# Altium integrated library Linear Technology Power Management Power Control.IntLib: 661 symbols (part 34 of 43)
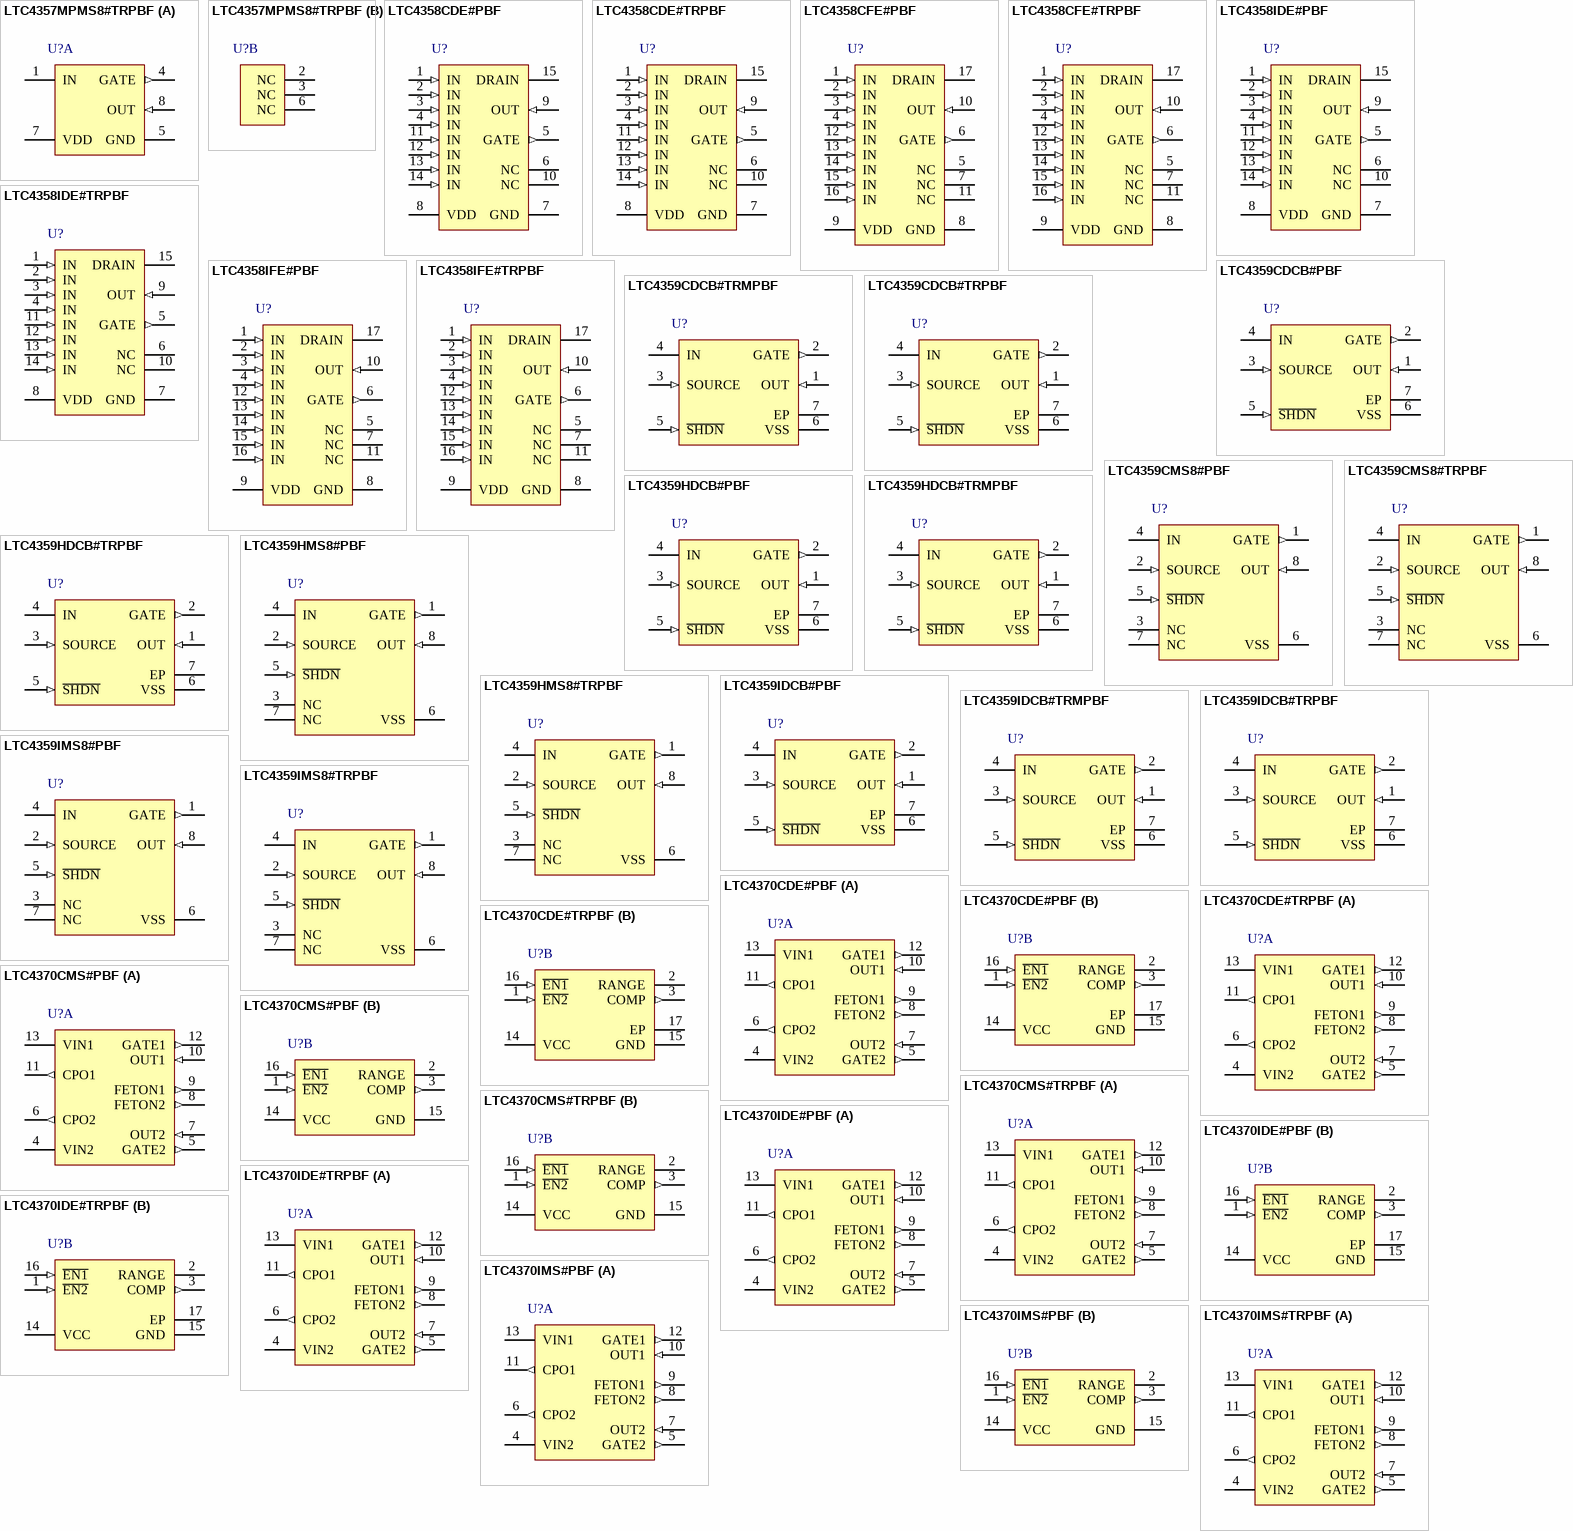
[diagram p52: symbols LTC4357MPMS8#TRPBF to LTC4370IMS#TRPBF]

## LTC4370IDE#PBF
designator U?
Two-Supply Diode-OR Current Balancing Controller, 0 to 18 V Vin, 16-pin SON (DE-16), -40 to 85 degC, Pb-Free; Manufacturer: Linear Technology; PartNumber: LTC4370IDE#PBF; Ideal Diode: Dual, External, N-Channel; PackageVersion: Rev. Ø, 06/2010; PackageReference: DE-16; PackageDescription: 16-Pin Plastic DFN, Body 4 x 3 mm, Pitch 0.45 mm; Supplier 1: Digi-Key; Supplier Part Number 1: LTC4370IDE#PBF-ND; Supplier 2: Farnell; Supplier Part Number 2: 2115824; RoHS: TRUE; Mounting Technology: Surface Mount; Code_JEDEC: MO-229; ComponentLink1Description: Manufacturer URL; ComponentLink1URL: http://www.linear.com/; ComponentLink2Description: Datasheet; ComponentLink2URL: http://cds.linear.com/docs/en/datasheet/4370f.pdf; ComponentLink3Description: Package Specification; ComponentLink3URL: http://cds.linear.com/docs/en/packaging/DFN_16_05-08-1732.pdf
footprint LT-DE-16_V (SON, 16-Leads, Body 4x3mm, Pitch 0.45mm, Thermal Pad 3.3x1.7mm)
part A pins: 4 VIN2 (power) "Voltage Sense and Supply Input. Connect this pin to the supply side of the MOSFET. The low voltage supply VCC is generated from the higher of VIN1 and VIN2. The voltage sensed at this pin is used to control the MOSFET gate.", 5 GATE2 (out) "MOSFET Gate Drive Output.Connect this pin to the gate of the external N-channel MOSFET switch. An internal clamp limits the gate voltage to 12V above, and a diode below the input supply. During fast turn-on, a 1.4A pull-up (See Datasheet)", 6 CPO2 (out) "Charge Pump Output. Connect a capacitor from this pin to the corresponding VIN pin. The value of this capacitor should be approximately 10x the gate capacitance (CISS) of the MOSFET switch. The charge stored on this (See Datasheet)", 7 OUT2 (in) "Output Voltage and Current Sense Input. Connect this pin to the input side of the supply’s current sense resistor. A Kelvin connection is important for accurate current sharing. The voltage sensed at this pin is used t(See Datasheet)", 8 FETON2 (out) "MOSFET Status Output. This pin is pulled low by an internal switch when GATE is less than 0.7V above VIN to indicate an off MOSFET. Because of this, it may also signal off if small currents are flowing through a high-gm (See Datasheet)", 9 FETON1 (out) "MOSFET Status Output. This pin is pulled low by an internal switch when GATE is less than 0.7V above VIN to indicate an off MOSFET. Because of this, it may also signal off if small currents are flowing through a high-gm (See Datasheet)", 10 OUT1 (in) "Output Voltage and Current Sense Input. Connect this pin to the input side of the supply’s current sense resistor. A Kelvin connection is important for accurate current sharing. The voltage sensed at this pin is used t(See Datasheet)", 11 CPO1 (out) "Charge Pump Output. Connect a capacitor from this pin to the corresponding VIN pin. The value of this capacitor should be approximately 10x the gate capacitance (CISS) of the MOSFET switch. The charge stored on this (See Datasheet)", 12 GATE1 (out) "MOSFET Gate Drive Output.Connect this pin to the gate of the external N-channel MOSFET switch. An internal clamp limits the gate voltage to 12V above, and a diode below the input supply. During fast turn-on, a 1.4A pull-up (See Datasheet)", 13 VIN1 (power) "Voltage Sense and Supply Input. Connect this pin to the supply side of the MOSFET. The low voltage supply VCC is generated from the higher of VIN1 and VIN2. The voltage sensed at this pin is used to control the MOSFET gate."
part B pins: 1 ~{EN2} (in) "Enable Input. Keep this pin below 0.6V to enable sharing and diode control on the corresponding supply. Driving this pin high shuts off the MOSFET gate (current can still flow through its body diode). The comparator has a (See Datasheet)", 2 RANGE "Supply Differential Voltage Load Sharing Range. Connect a resistor (below 60k) from this pin to GND. A 10uA internal pull-up current source into this resistor sets the pin voltage VRANGE. The two supplies will typically (See Datasheet)", 3 COMP (out) "Error Amplifier Compensation. Connect a capacitor from this pin to GND. The value of this capacitor should be approximately 10 to 50 times the gate capacitance (CISS) of the MOSFET switch. Maintain low board leakage on this (See Datasheet)", 14 VCC (power) "Low Voltage Supply. Connect a 0.1uF capacitor from this pin to ground. For VIN >= 2.9V this pin provides decoupling for an internal regulator that generates a 5V supply. For applications where both VIN < 2.9V, also connect (See Datasheet)", 15 GND (power) "Device Ground.", 16 ~{EN1} (in) "Enable Input. Keep this pin below 0.6V to enable sharing and diode control on the corresponding supply. Driving this pin high shuts off the MOSFET gate (current can still flow through its body diode). The comparator has a (See Datasheet)", 17 EP (power) "The exposed pad may be left open or connected to device ground."

## LTC4370IDE#TRPBF
designator U?
Two-Supply Diode-OR Current Balancing Controller, 0 to 18 V Vin, 16-pin SON (DE-16), -40 to 85 degC, Pb-Free, Tape and Reel; Manufacturer: Linear Technology; PartNumber: LTC4370IDE#TRPBF; Ideal Diode: Dual, External, N-Channel; PackageVersion: Rev. Ø, 06/2010; PackageReference: DE-16; PackageDescription: 16-Pin Plastic DFN, Body 4 x 3 mm, Pitch 0.45 mm; Packing: Tape and Reel; RoHS: TRUE; Mounting Technology: Surface Mount; Code_JEDEC: MO-229; ComponentLink1Description: Manufacturer URL; ComponentLink1URL: http://www.linear.com/; ComponentLink2Description: Datasheet; ComponentLink2URL: http://cds.linear.com/docs/en/datasheet/4370f.pdf; ComponentLink3Description: Package Specification; ComponentLink3URL: http://cds.linear.com/docs/en/packaging/DFN_16_05-08-1732.pdf
footprint LT-DE-16_V (SON, 16-Leads, Body 4x3mm, Pitch 0.45mm, Thermal Pad 3.3x1.7mm)
part A pins: 4 VIN2 (power) "Voltage Sense and Supply Input. Connect this pin to the supply side of the MOSFET. The low voltage supply VCC is generated from the higher of VIN1 and VIN2. The voltage sensed at this pin is used to control the MOSFET gate.", 5 GATE2 (out) "MOSFET Gate Drive Output.Connect this pin to the gate of the external N-channel MOSFET switch. An internal clamp limits the gate voltage to 12V above, and a diode below the input supply. During fast turn-on, a 1.4A pull-up (See Datasheet)", 6 CPO2 (out) "Charge Pump Output. Connect a capacitor from this pin to the corresponding VIN pin. The value of this capacitor should be approximately 10x the gate capacitance (CISS) of the MOSFET switch. The charge stored on this (See Datasheet)", 7 OUT2 (in) "Output Voltage and Current Sense Input. Connect this pin to the input side of the supply’s current sense resistor. A Kelvin connection is important for accurate current sharing. The voltage sensed at this pin is used t(See Datasheet)", 8 FETON2 (out) "MOSFET Status Output. This pin is pulled low by an internal switch when GATE is less than 0.7V above VIN to indicate an off MOSFET. Because of this, it may also signal off if small currents are flowing through a high-gm (See Datasheet)", 9 FETON1 (out) "MOSFET Status Output. This pin is pulled low by an internal switch when GATE is less than 0.7V above VIN to indicate an off MOSFET. Because of this, it may also signal off if small currents are flowing through a high-gm (See Datasheet)", 10 OUT1 (in) "Output Voltage and Current Sense Input. Connect this pin to the input side of the supply’s current sense resistor. A Kelvin connection is important for accurate current sharing. The voltage sensed at this pin is used t(See Datasheet)", 11 CPO1 (out) "Charge Pump Output. Connect a capacitor from this pin to the corresponding VIN pin. The value of this capacitor should be approximately 10x the gate capacitance (CISS) of the MOSFET switch. The charge stored on this (See Datasheet)", 12 GATE1 (out) "MOSFET Gate Drive Output.Connect this pin to the gate of the external N-channel MOSFET switch. An internal clamp limits the gate voltage to 12V above, and a diode below the input supply. During fast turn-on, a 1.4A pull-up (See Datasheet)", 13 VIN1 (power) "Voltage Sense and Supply Input. Connect this pin to the supply side of the MOSFET. The low voltage supply VCC is generated from the higher of VIN1 and VIN2. The voltage sensed at this pin is used to control the MOSFET gate."
part B pins: 1 ~{EN2} (in) "Enable Input. Keep this pin below 0.6V to enable sharing and diode control on the corresponding supply. Driving this pin high shuts off the MOSFET gate (current can still flow through its body diode). The comparator has a (See Datasheet)", 2 RANGE "Supply Differential Voltage Load Sharing Range. Connect a resistor (below 60k) from this pin to GND. A 10uA internal pull-up current source into this resistor sets the pin voltage VRANGE. The two supplies will typically (See Datasheet)", 3 COMP (out) "Error Amplifier Compensation. Connect a capacitor from this pin to GND. The value of this capacitor should be approximately 10 to 50 times the gate capacitance (CISS) of the MOSFET switch. Maintain low board leakage on this (See Datasheet)", 14 VCC (power) "Low Voltage Supply. Connect a 0.1uF capacitor from this pin to ground. For VIN >= 2.9V this pin provides decoupling for an internal regulator that generates a 5V supply. For applications where both VIN < 2.9V, also connect (See Datasheet)", 15 GND (power) "Device Ground.", 16 ~{EN1} (in) "Enable Input. Keep this pin below 0.6V to enable sharing and diode control on the corresponding supply. Driving this pin high shuts off the MOSFET gate (current can still flow through its body diode). The comparator has a (See Datasheet)", 17 EP (power) "The exposed pad may be left open or connected to device ground."

## LTC4370IMS#PBF
designator U?
Two-Supply Diode-OR Current Balancing Controller, 0 to 18 V Vin, 16-pin SOP (MS-16), -40 to 85 degC, Pb-Free; Manufacturer: Linear Technology; PartNumber: LTC4370IMS#PBF; Ideal Diode: Dual, External, N-Channel; PackageVersion: Rev. Ø, 06/2010; PackageReference: MS16; PackageDescription: 16-Pin Plastic MSOP, Body 4.04 x 3.00 mm, Pitch 0.50 mm; Supplier 1: Digi-Key; Supplier Part Number 1: LTC4370IMS#PBF-ND; Supplier 2: Farnell; Supplier Part Number 2: 2115825; Supplier 3: Newark; Supplier Part Number 3: 05W4634; RoHS: TRUE; Mounting Technology: Surface Mount; ComponentLink1Description: Manufacturer URL; ComponentLink1URL: http://www.linear.com/; ComponentLink2Description: Datasheet; ComponentLink2URL: http://cds.linear.com/docs/en/datasheet/4370f.pdf; ComponentLink3Description: Package Specification; ComponentLink3URL: http://cds.linear.com/docs/en/packaging/05081669_A_MS16.pdf
footprint LT-MS-16_N (SOP, 16-Leads, Body 4.1x3.1mm, Pitch 0.5mm, IPC Medium Density)
footprint LT-MS-16_L (SOP, 16-Leads, Body 4.1x3.1mm, Pitch 0.5mm, IPC High Density)
footprint LT-MS-16_M (SOP, 16-Leads, Body 4.1x3.1mm, Pitch 0.5mm, IPC Low Density)
part A pins: 4 VIN2 (power) "Voltage Sense and Supply Input. Connect this pin to the supply side of the MOSFET. The low voltage supply VCC is generated from the higher of VIN1 and VIN2. The voltage sensed at this pin is used to control the MOSFET gate.", 5 GATE2 (out) "MOSFET Gate Drive Output.Connect this pin to the gate of the external N-channel MOSFET switch. An internal clamp limits the gate voltage to 12V above, and a diode below the input supply. During fast turn-on, a 1.4A pull-up (See Datasheet)", 6 CPO2 (out) "Charge Pump Output. Connect a capacitor from this pin to the corresponding VIN pin. The value of this capacitor should be approximately 10x the gate capacitance (CISS) of the MOSFET switch. The charge stored on this (See Datasheet)", 7 OUT2 (in) "Output Voltage and Current Sense Input. Connect this pin to the input side of the supply’s current sense resistor. A Kelvin connection is important for accurate current sharing. The voltage sensed at this pin is used t(See Datasheet)", 8 FETON2 (out) "MOSFET Status Output. This pin is pulled low by an internal switch when GATE is less than 0.7V above VIN to indicate an off MOSFET. Because of this, it may also signal off if small currents are flowing through a high-gm (See Datasheet)", 9 FETON1 (out) "MOSFET Status Output. This pin is pulled low by an internal switch when GATE is less than 0.7V above VIN to indicate an off MOSFET. Because of this, it may also signal off if small currents are flowing through a high-gm (See Datasheet)", 10 OUT1 (in) "Output Voltage and Current Sense Input. Connect this pin to the input side of the supply’s current sense resistor. A Kelvin connection is important for accurate current sharing. The voltage sensed at this pin is used t(See Datasheet)", 11 CPO1 (out) "Charge Pump Output. Connect a capacitor from this pin to the corresponding VIN pin. The value of this capacitor should be approximately 10x the gate capacitance (CISS) of the MOSFET switch. The charge stored on this (See Datasheet)", 12 GATE1 (out) "MOSFET Gate Drive Output.Connect this pin to the gate of the external N-channel MOSFET switch. An internal clamp limits the gate voltage to 12V above, and a diode below the input supply. During fast turn-on, a 1.4A pull-up (See Datasheet)", 13 VIN1 (power) "Voltage Sense and Supply Input. Connect this pin to the supply side of the MOSFET. The low voltage supply VCC is generated from the higher of VIN1 and VIN2. The voltage sensed at this pin is used to control the MOSFET gate."
part B pins: 1 ~{EN2} (in) "Enable Input. Keep this pin below 0.6V to enable sharing and diode control on the corresponding supply. Driving this pin high shuts off the MOSFET gate (current can still flow through its body diode). The comparator has a (See Datasheet)", 2 RANGE "Supply Differential Voltage Load Sharing Range. Connect a resistor (below 60k) from this pin to GND. A 10uA internal pull-up current source into this resistor sets the pin voltage VRANGE. The two supplies will typically (See Datasheet)", 3 COMP (out) "Error Amplifier Compensation. Connect a capacitor from this pin to GND. The value of this capacitor should be approximately 10 to 50 times the gate capacitance (CISS) of the MOSFET switch. Maintain low board leakage on this (See Datasheet)", 14 VCC (power) "Low Voltage Supply. Connect a 0.1uF capacitor from this pin to ground. For VIN >= 2.9V this pin provides decoupling for an internal regulator that generates a 5V supply. For applications where both VIN < 2.9V, also connect (See Datasheet)", 15 GND (power) "Device Ground.", 16 ~{EN1} (in) "Enable Input. Keep this pin below 0.6V to enable sharing and diode control on the corresponding supply. Driving this pin high shuts off the MOSFET gate (current can still flow through its body diode). The comparator has a (See Datasheet)"

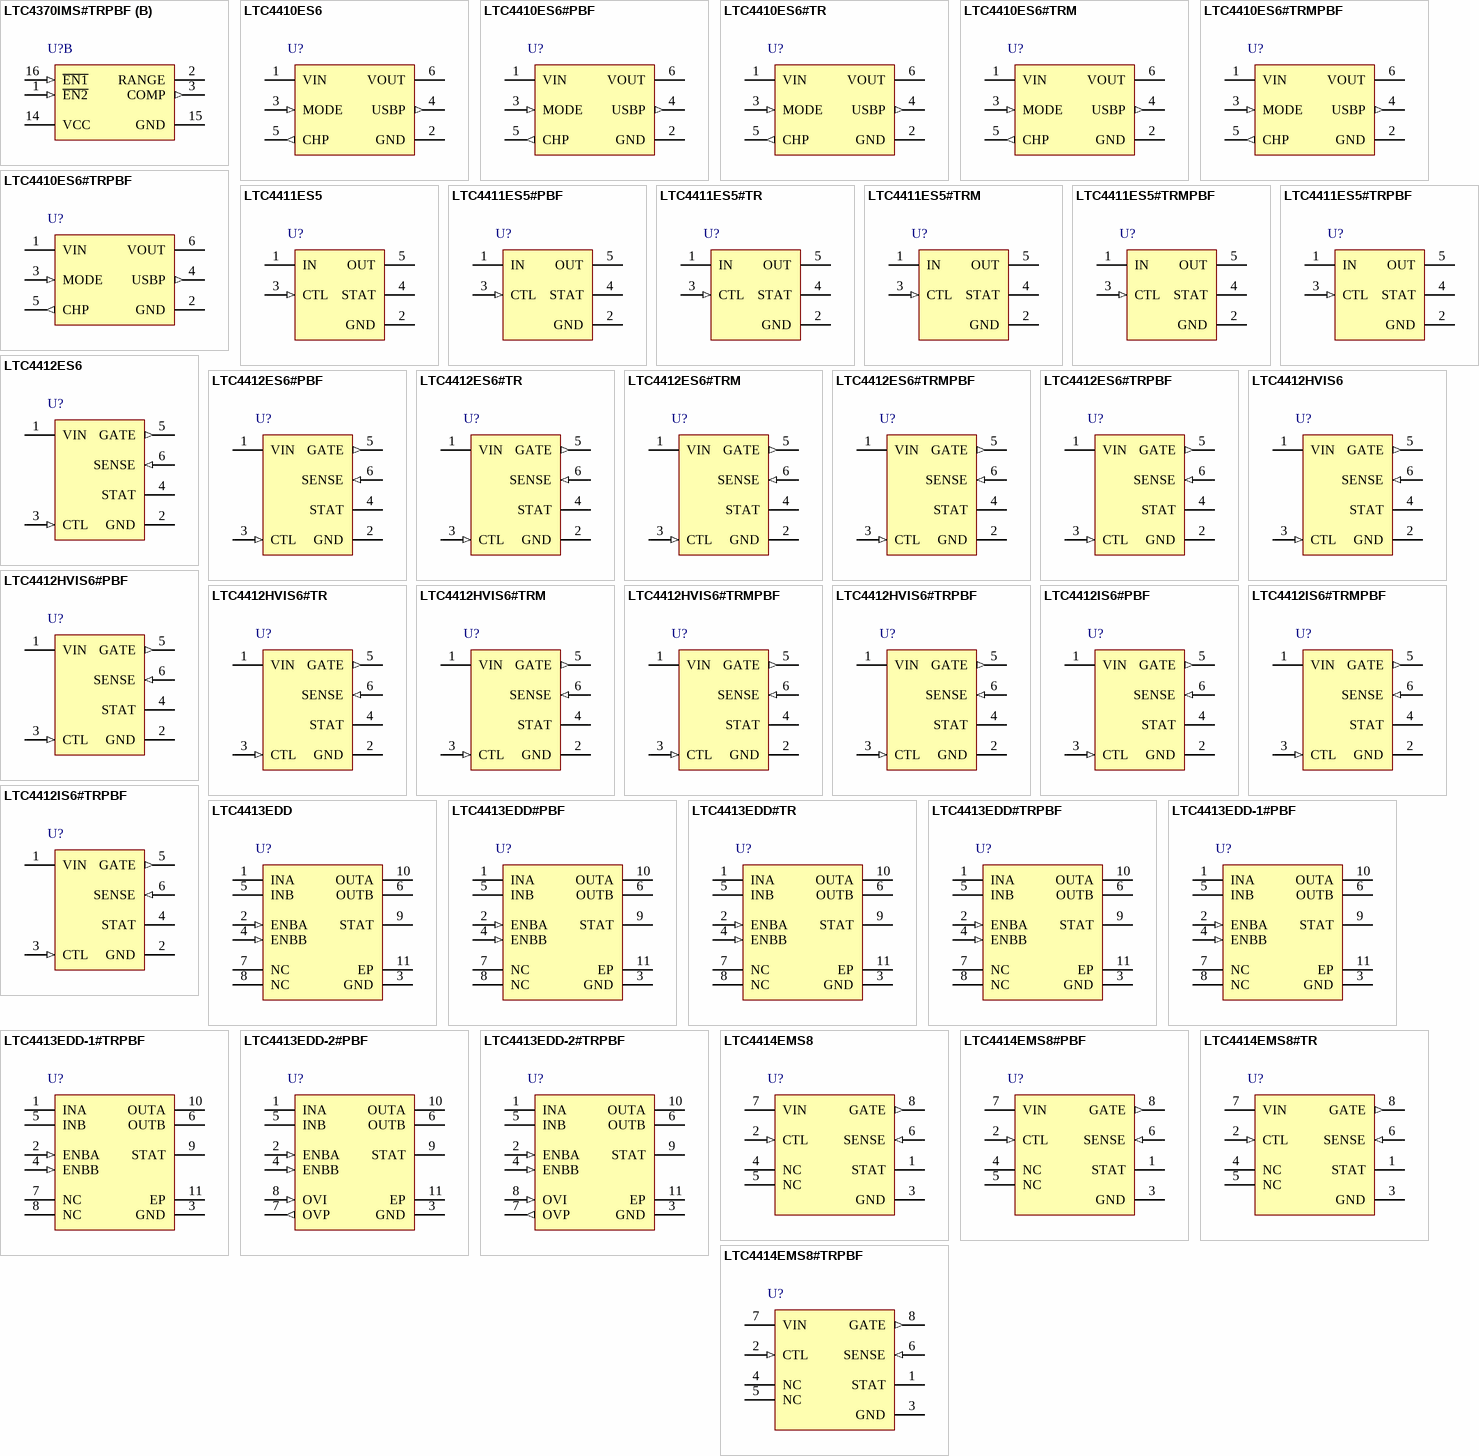
[diagram p16: symbols LTC4370IMS#TRPBF to LTC4414EMS8#TRPBF]

## LTC4370IMS#TRPBF
designator U?
Two-Supply Diode-OR Current Balancing Controller, 0 to 18 V Vin, 16-pin SOP (MS-16), -40 to 85 degC, Pb-Free, Tape and Reel; Manufacturer: Linear Technology; PartNumber: LTC4370IMS#TRPBF; Ideal Diode: Dual, External, N-Channel; PackageVersion: Rev. Ø, 06/2010; PackageReference: MS16; PackageDescription: 16-Pin Plastic MSOP, Body 4.04 x 3.00 mm, Pitch 0.50 mm; Packing: Tape and Reel; RoHS: TRUE; Mounting Technology: Surface Mount; ComponentLink1Description: Manufacturer URL; ComponentLink1URL: http://www.linear.com/; ComponentLink2Description: Datasheet; ComponentLink2URL: http://cds.linear.com/docs/en/datasheet/4370f.pdf; ComponentLink3Description: Package Specification; ComponentLink3URL: http://cds.linear.com/docs/en/packaging/05081669_A_MS16.pdf
footprint LT-MS-16_N (SOP, 16-Leads, Body 4.1x3.1mm, Pitch 0.5mm, IPC Medium Density)
footprint LT-MS-16_L (SOP, 16-Leads, Body 4.1x3.1mm, Pitch 0.5mm, IPC High Density)
footprint LT-MS-16_M (SOP, 16-Leads, Body 4.1x3.1mm, Pitch 0.5mm, IPC Low Density)
part A pins: 4 VIN2 (power) "Voltage Sense and Supply Input. Connect this pin to the supply side of the MOSFET. The low voltage supply VCC is generated from the higher of VIN1 and VIN2. The voltage sensed at this pin is used to control the MOSFET gate.", 5 GATE2 (out) "MOSFET Gate Drive Output.Connect this pin to the gate of the external N-channel MOSFET switch. An internal clamp limits the gate voltage to 12V above, and a diode below the input supply. During fast turn-on, a 1.4A pull-up (See Datasheet)", 6 CPO2 (out) "Charge Pump Output. Connect a capacitor from this pin to the corresponding VIN pin. The value of this capacitor should be approximately 10x the gate capacitance (CISS) of the MOSFET switch. The charge stored on this (See Datasheet)", 7 OUT2 (in) "Output Voltage and Current Sense Input. Connect this pin to the input side of the supply’s current sense resistor. A Kelvin connection is important for accurate current sharing. The voltage sensed at this pin is used t(See Datasheet)", 8 FETON2 (out) "MOSFET Status Output. This pin is pulled low by an internal switch when GATE is less than 0.7V above VIN to indicate an off MOSFET. Because of this, it may also signal off if small currents are flowing through a high-gm (See Datasheet)", 9 FETON1 (out) "MOSFET Status Output. This pin is pulled low by an internal switch when GATE is less than 0.7V above VIN to indicate an off MOSFET. Because of this, it may also signal off if small currents are flowing through a high-gm (See Datasheet)", 10 OUT1 (in) "Output Voltage and Current Sense Input. Connect this pin to the input side of the supply’s current sense resistor. A Kelvin connection is important for accurate current sharing. The voltage sensed at this pin is used t(See Datasheet)", 11 CPO1 (out) "Charge Pump Output. Connect a capacitor from this pin to the corresponding VIN pin. The value of this capacitor should be approximately 10x the gate capacitance (CISS) of the MOSFET switch. The charge stored on this (See Datasheet)", 12 GATE1 (out) "MOSFET Gate Drive Output.Connect this pin to the gate of the external N-channel MOSFET switch. An internal clamp limits the gate voltage to 12V above, and a diode below the input supply. During fast turn-on, a 1.4A pull-up (See Datasheet)", 13 VIN1 (power) "Voltage Sense and Supply Input. Connect this pin to the supply side of the MOSFET. The low voltage supply VCC is generated from the higher of VIN1 and VIN2. The voltage sensed at this pin is used to control the MOSFET gate."
part B pins: 1 ~{EN2} (in) "Enable Input. Keep this pin below 0.6V to enable sharing and diode control on the corresponding supply. Driving this pin high shuts off the MOSFET gate (current can still flow through its body diode). The comparator has a (See Datasheet)", 2 RANGE "Supply Differential Voltage Load Sharing Range. Connect a resistor (below 60k) from this pin to GND. A 10uA internal pull-up current source into this resistor sets the pin voltage VRANGE. The two supplies will typically (See Datasheet)", 3 COMP (out) "Error Amplifier Compensation. Connect a capacitor from this pin to GND. The value of this capacitor should be approximately 10 to 50 times the gate capacitance (CISS) of the MOSFET switch. Maintain low board leakage on this (See Datasheet)", 14 VCC (power) "Low Voltage Supply. Connect a 0.1uF capacitor from this pin to ground. For VIN >= 2.9V this pin provides decoupling for an internal regulator that generates a 5V supply. For applications where both VIN < 2.9V, also connect (See Datasheet)", 15 GND (power) "Device Ground.", 16 ~{EN1} (in) "Enable Input. Keep this pin below 0.6V to enable sharing and diode control on the corresponding supply. Driving this pin high shuts off the MOSFET gate (current can still flow through its body diode). The comparator has a (See Datasheet)"

## LTC4410ES6
designator U?
USB Power Manager, 4.35 to 5.5 V Vin, 6-pin SOT23 (S6-6), -40 to 85 degC; Manufacturer: Linear Technology; PartNumber: LTC4410ES6; Ideal Diode: Single, External, P-Channel; PackageVersion: Jun-10; PackageReference: S6-6; PackageDescription: 6-Pin Plastic TSOT-23, Body 2.9 x 1.63 mm, Pitch 0.95 mm; RoHS: FALSE; Mounting Technology: Surface Mount; Code_JEDEC: MO-193; ComponentLink1Description: Manufacturer URL; ComponentLink1URL: http://www.linear.com/; ComponentLink2Description: Datasheet; ComponentLink2URL: http://cds.linear.com/docs/en/datasheet/4410fs.pdf; ComponentLink3Description: Package Specification; ComponentLink3URL: http://cds.linear.com/docs/en/packaging/SOT_6_05-08-1636.pdf
footprint LT-S6-6-TSOT-23_N (SOT23, 6-Leads, Body 2.9x1.75mm, Pitch 0.95mm, IPC Medium Density)
footprint LT-S6-6-TSOT-23_L (SOT23, 6-Leads, Body 2.9x1.75mm, Pitch 0.95mm, IPC High Density)
footprint LT-S6-6-TSOT-23_M (SOT23, 6-Leads, Body 2.9x1.75mm, Pitch 0.95mm, IPC Low Density)
pins: 1 VIN (power) "Positive Input Supply. When VIN > 4.2V, the internal undervoltage lockout enables the main switch that connects VIN to VOUT. Bypass VIN with a 10uF ceramic capacitor and a 1ohm resistor in series or use a 10uF capacitor with (See Datasheet)", 2 GND (power) "Signal Ground for the LTC4410.", 3 MODE (in) "Mode Select Input. This pin selects the maximum USB port current of either 100mA or 500mA. When MODE is high, the current out of CHP will be IVOUT/ 1000. When MODE is low, the current out of CHP will be IVOUT/1000 + 370uA (See Datasheet)", 4 USBP (out) "USB Voltage Present Output. This pin goes high when VIN exceeds the undervoltage lockout threshold (4.2V typical).", 5 CHP (out) "Charger Program Output. This pin sources a current that is used by the battery charger to control charge current.", 6 VOUT (power) "LTC4410 Output. Bypass this pin with a 10uF or larger X5R ceramic capacitor. This capacitor may be omitted if other circuitry connected to VOUT contains a bypass capacitor. When VOUT > VIN, the internal switch is held off, (See Datasheet)"

## LTC4410ES6#PBF
designator U?
USB Power Manager, 4.35 to 5.5 V Vin, 6-pin SOT23 (S6-6), -40 to 85 degC, Pb-Free; Manufacturer: Linear Technology; PartNumber: LTC4410ES6#PBF; Ideal Diode: Single, External, P-Channel; PackageVersion: Jun-10; PackageReference: S6-6; PackageDescription: 6-Pin Plastic TSOT-23, Body 2.9 x 1.63 mm, Pitch 0.95 mm; Supplier 1: Newark; Supplier Part Number 1: 78T3424; RoHS: TRUE; Mounting Technology: Surface Mount; Code_JEDEC: MO-193; ComponentLink1Description: Manufacturer URL; ComponentLink1URL: http://www.linear.com/; ComponentLink2Description: Datasheet; ComponentLink2URL: http://cds.linear.com/docs/en/datasheet/4410fs.pdf; ComponentLink3Description: Package Specification; ComponentLink3URL: http://cds.linear.com/docs/en/packaging/SOT_6_05-08-1636.pdf
footprint LT-S6-6-TSOT-23_N (SOT23, 6-Leads, Body 2.9x1.75mm, Pitch 0.95mm, IPC Medium Density)
footprint LT-S6-6-TSOT-23_L (SOT23, 6-Leads, Body 2.9x1.75mm, Pitch 0.95mm, IPC High Density)
footprint LT-S6-6-TSOT-23_M (SOT23, 6-Leads, Body 2.9x1.75mm, Pitch 0.95mm, IPC Low Density)
pins: 1 VIN (power) "Positive Input Supply. When VIN > 4.2V, the internal undervoltage lockout enables the main switch that connects VIN to VOUT. Bypass VIN with a 10uF ceramic capacitor and a 1ohm resistor in series or use a 10uF capacitor with (See Datasheet)", 2 GND (power) "Signal Ground for the LTC4410.", 3 MODE (in) "Mode Select Input. This pin selects the maximum USB port current of either 100mA or 500mA. When MODE is high, the current out of CHP will be IVOUT/ 1000. When MODE is low, the current out of CHP will be IVOUT/1000 + 370uA (See Datasheet)", 4 USBP (out) "USB Voltage Present Output. This pin goes high when VIN exceeds the undervoltage lockout threshold (4.2V typical).", 5 CHP (out) "Charger Program Output. This pin sources a current that is used by the battery charger to control charge current.", 6 VOUT (power) "LTC4410 Output. Bypass this pin with a 10uF or larger X5R ceramic capacitor. This capacitor may be omitted if other circuitry connected to VOUT contains a bypass capacitor. When VOUT > VIN, the internal switch is held off, (See Datasheet)"

## LTC4410ES6#TR
designator U?
USB Power Manager, 4.35 to 5.5 V Vin, 6-pin SOT23 (S6-6), -40 to 85 degC, Tape and Reel; Manufacturer: Linear Technology; PartNumber: LTC4410ES6#TR; Ideal Diode: Single, External, P-Channel; PackageVersion: Jun-10; PackageReference: S6-6; PackageDescription: 6-Pin Plastic TSOT-23, Body 2.9 x 1.63 mm, Pitch 0.95 mm; Supplier 1: Digi-Key; Supplier Part Number 1: LTC4410ES6#TR-ND; Packing: Tape and Reel; RoHS: FALSE; Mounting Technology: Surface Mount; Code_JEDEC: MO-193; ComponentLink1Description: Manufacturer URL; ComponentLink1URL: http://www.linear.com/; ComponentLink2Description: Datasheet; ComponentLink2URL: http://cds.linear.com/docs/en/datasheet/4410fs.pdf; ComponentLink3Description: Package Specification; ComponentLink3URL: http://cds.linear.com/docs/en/packaging/SOT_6_05-08-1636.pdf
footprint LT-S6-6-TSOT-23_N (SOT23, 6-Leads, Body 2.9x1.75mm, Pitch 0.95mm, IPC Medium Density)
footprint LT-S6-6-TSOT-23_L (SOT23, 6-Leads, Body 2.9x1.75mm, Pitch 0.95mm, IPC High Density)
footprint LT-S6-6-TSOT-23_M (SOT23, 6-Leads, Body 2.9x1.75mm, Pitch 0.95mm, IPC Low Density)
pins: 1 VIN (power) "Positive Input Supply. When VIN > 4.2V, the internal undervoltage lockout enables the main switch that connects VIN to VOUT. Bypass VIN with a 10uF ceramic capacitor and a 1ohm resistor in series or use a 10uF capacitor with (See Datasheet)", 2 GND (power) "Signal Ground for the LTC4410.", 3 MODE (in) "Mode Select Input. This pin selects the maximum USB port current of either 100mA or 500mA. When MODE is high, the current out of CHP will be IVOUT/ 1000. When MODE is low, the current out of CHP will be IVOUT/1000 + 370uA (See Datasheet)", 4 USBP (out) "USB Voltage Present Output. This pin goes high when VIN exceeds the undervoltage lockout threshold (4.2V typical).", 5 CHP (out) "Charger Program Output. This pin sources a current that is used by the battery charger to control charge current.", 6 VOUT (power) "LTC4410 Output. Bypass this pin with a 10uF or larger X5R ceramic capacitor. This capacitor may be omitted if other circuitry connected to VOUT contains a bypass capacitor. When VOUT > VIN, the internal switch is held off, (See Datasheet)"

## LTC4410ES6#TRM
designator U?
USB Power Manager, 4.35 to 5.5 V Vin, 6-pin SOT23 (S6-6), -40 to 85 degC, Mini Tape and Reel; Manufacturer: Linear Technology; PartNumber: LTC4410ES6#TRM; Ideal Diode: Single, External, P-Channel; PackageVersion: Jun-10; PackageReference: S6-6; PackageDescription: 6-Pin Plastic TSOT-23, Body 2.9 x 1.63 mm, Pitch 0.95 mm; Supplier 1: Digi-Key; Supplier Part Number 1: LTC4410ES6#TRM-ND; Packing: Mini Tape and Reel; RoHS: FALSE; Mounting Technology: Surface Mount; Code_JEDEC: MO-193; ComponentLink1Description: Manufacturer URL; ComponentLink1URL: http://www.linear.com/; ComponentLink2Description: Datasheet; ComponentLink2URL: http://cds.linear.com/docs/en/datasheet/4410fs.pdf; ComponentLink3Description: Package Specification; ComponentLink3URL: http://cds.linear.com/docs/en/packaging/SOT_6_05-08-1636.pdf
footprint LT-S6-6-TSOT-23_N (SOT23, 6-Leads, Body 2.9x1.75mm, Pitch 0.95mm, IPC Medium Density)
footprint LT-S6-6-TSOT-23_L (SOT23, 6-Leads, Body 2.9x1.75mm, Pitch 0.95mm, IPC High Density)
footprint LT-S6-6-TSOT-23_M (SOT23, 6-Leads, Body 2.9x1.75mm, Pitch 0.95mm, IPC Low Density)
pins: 1 VIN (power) "Positive Input Supply. When VIN > 4.2V, the internal undervoltage lockout enables the main switch that connects VIN to VOUT. Bypass VIN with a 10uF ceramic capacitor and a 1ohm resistor in series or use a 10uF capacitor with (See Datasheet)", 2 GND (power) "Signal Ground for the LTC4410.", 3 MODE (in) "Mode Select Input. This pin selects the maximum USB port current of either 100mA or 500mA. When MODE is high, the current out of CHP will be IVOUT/ 1000. When MODE is low, the current out of CHP will be IVOUT/1000 + 370uA (See Datasheet)", 4 USBP (out) "USB Voltage Present Output. This pin goes high when VIN exceeds the undervoltage lockout threshold (4.2V typical).", 5 CHP (out) "Charger Program Output. This pin sources a current that is used by the battery charger to control charge current.", 6 VOUT (power) "LTC4410 Output. Bypass this pin with a 10uF or larger X5R ceramic capacitor. This capacitor may be omitted if other circuitry connected to VOUT contains a bypass capacitor. When VOUT > VIN, the internal switch is held off, (See Datasheet)"

## LTC4410ES6#TRMPBF
designator U?
USB Power Manager, 4.35 to 5.5 V Vin, 6-pin SOT23 (S6-6), -40 to 85 degC, Pb-Free, Mini Tape and Reel; Manufacturer: Linear Technology; PartNumber: LTC4410ES6#TRMPBF; Ideal Diode: Single, External, P-Channel; PackageVersion: Jun-10; PackageReference: S6-6; PackageDescription: 6-Pin Plastic TSOT-23, Body 2.9 x 1.63 mm, Pitch 0.95 mm; Supplier 1: Digi-Key; Supplier Part Number 1: LTC4410ES6#TRMPBF-ND; Packing: Mini Tape and Reel; RoHS: TRUE; Mounting Technology: Surface Mount; Code_JEDEC: MO-193; ComponentLink1Description: Manufacturer URL; ComponentLink1URL: http://www.linear.com/; ComponentLink2Description: Datasheet; ComponentLink2URL: http://cds.linear.com/docs/en/datasheet/4410fs.pdf; ComponentLink3Description: Package Specification; ComponentLink3URL: http://cds.linear.com/docs/en/packaging/SOT_6_05-08-1636.pdf
footprint LT-S6-6-TSOT-23_N (SOT23, 6-Leads, Body 2.9x1.75mm, Pitch 0.95mm, IPC Medium Density)
footprint LT-S6-6-TSOT-23_L (SOT23, 6-Leads, Body 2.9x1.75mm, Pitch 0.95mm, IPC High Density)
footprint LT-S6-6-TSOT-23_M (SOT23, 6-Leads, Body 2.9x1.75mm, Pitch 0.95mm, IPC Low Density)
pins: 1 VIN (power) "Positive Input Supply. When VIN > 4.2V, the internal undervoltage lockout enables the main switch that connects VIN to VOUT. Bypass VIN with a 10uF ceramic capacitor and a 1ohm resistor in series or use a 10uF capacitor with (See Datasheet)", 2 GND (power) "Signal Ground for the LTC4410.", 3 MODE (in) "Mode Select Input. This pin selects the maximum USB port current of either 100mA or 500mA. When MODE is high, the current out of CHP will be IVOUT/ 1000. When MODE is low, the current out of CHP will be IVOUT/1000 + 370uA (See Datasheet)", 4 USBP (out) "USB Voltage Present Output. This pin goes high when VIN exceeds the undervoltage lockout threshold (4.2V typical).", 5 CHP (out) "Charger Program Output. This pin sources a current that is used by the battery charger to control charge current.", 6 VOUT (power) "LTC4410 Output. Bypass this pin with a 10uF or larger X5R ceramic capacitor. This capacitor may be omitted if other circuitry connected to VOUT contains a bypass capacitor. When VOUT > VIN, the internal switch is held off, (See Datasheet)"

## LTC4410ES6#TRPBF
designator U?
USB Power Manager, 4.35 to 5.5 V Vin, 6-pin SOT23 (S6-6), -40 to 85 degC, Pb-Free, Tape and Reel; Manufacturer: Linear Technology; PartNumber: LTC4410ES6#TRPBF; Ideal Diode: Single, External, P-Channel; PackageVersion: Jun-10; PackageReference: S6-6; PackageDescription: 6-Pin Plastic TSOT-23, Body 2.9 x 1.63 mm, Pitch 0.95 mm; Supplier 1: Digi-Key; Supplier Part Number 1: LTC4410ES6#TRPBF-ND; Packing: Tape and Reel; RoHS: TRUE; Mounting Technology: Surface Mount; Code_JEDEC: MO-193; ComponentLink1Description: Manufacturer URL; ComponentLink1URL: http://www.linear.com/; ComponentLink2Description: Datasheet; ComponentLink2URL: http://cds.linear.com/docs/en/datasheet/4410fs.pdf; ComponentLink3Description: Package Specification; ComponentLink3URL: http://cds.linear.com/docs/en/packaging/SOT_6_05-08-1636.pdf
footprint LT-S6-6-TSOT-23_N (SOT23, 6-Leads, Body 2.9x1.75mm, Pitch 0.95mm, IPC Medium Density)
footprint LT-S6-6-TSOT-23_L (SOT23, 6-Leads, Body 2.9x1.75mm, Pitch 0.95mm, IPC High Density)
footprint LT-S6-6-TSOT-23_M (SOT23, 6-Leads, Body 2.9x1.75mm, Pitch 0.95mm, IPC Low Density)
pins: 1 VIN (power) "Positive Input Supply. When VIN > 4.2V, the internal undervoltage lockout enables the main switch that connects VIN to VOUT. Bypass VIN with a 10uF ceramic capacitor and a 1ohm resistor in series or use a 10uF capacitor with (See Datasheet)", 2 GND (power) "Signal Ground for the LTC4410.", 3 MODE (in) "Mode Select Input. This pin selects the maximum USB port current of either 100mA or 500mA. When MODE is high, the current out of CHP will be IVOUT/ 1000. When MODE is low, the current out of CHP will be IVOUT/1000 + 370uA (See Datasheet)", 4 USBP (out) "USB Voltage Present Output. This pin goes high when VIN exceeds the undervoltage lockout threshold (4.2V typical).", 5 CHP (out) "Charger Program Output. This pin sources a current that is used by the battery charger to control charge current.", 6 VOUT (power) "LTC4410 Output. Bypass this pin with a 10uF or larger X5R ceramic capacitor. This capacitor may be omitted if other circuitry connected to VOUT contains a bypass capacitor. When VOUT > VIN, the internal switch is held off, (See Datasheet)"

## LTC4411ES5
designator U?
Integrated Switch: Replaces Power Supply OR, 2.6 to 5.5 V Vin, 5-pin SOT23 (S5-5), -40 to 85 degC; Manufacturer: Linear Technology; PartNumber: LTC4411ES5; Ideal Diode: Single, Internal, P-Channel; DatasheetVersion: Rev. A; PackageVersion: Jun-10; PackageReference: S5-5; PackageDescription: 5-Pin Plastic TSOT-23, Body 1.63 x 2.90 mm, Pitch 0.95 mm; RoHS: FALSE; Mounting Technology: Surface Mount; Code_JEDEC: MO-193; ComponentLink1Description: Manufacturer URL; ComponentLink1URL: http://www.linear.com/; ComponentLink2Description: Datasheet; ComponentLink2URL: http://cds.linear.com/docs/en/datasheet/4411fa.pdf; ComponentLink3Description: Package Specification; ComponentLink3URL: http://cds.linear.com/docs/en/packaging/SOT_5_05-08-1635.pdf
footprint LT-S5-5-TSOT-23_N (SOT23, 5-Leads, Body 2.90x1.63mm, Pitch 0.95mm, IPC Medium Density)
footprint LT-S5-5-TSOT-23_L (SOT23, 5-Leads, Body 2.90x1.63mm, Pitch 0.95mm, IPC High Density)
footprint LT-S5-5-TSOT-23_M (SOT23, 5-Leads, Body 2.90x1.63mm, Pitch 0.95mm, IPC Low Density)
pins: 1 IN (power) "Ideal Diode Anode and Positive Power Supply for LTC4411. When operating LTC4411 as a switch it must be bypassed with a low ESR ceramic capacitor of 1uF. X5R and X7R dielectrics are preferred for their superior voltage and (See Datasheet)", 2 GND (power) "Power and Signal Ground for the IC.", 3 CTL (in) "Controlled Shutdown Pin. Weak (3uA) Pull-Down. Pull this pin high to shut down the IC. Tie to GND to enable. Can be left floating when not in use.", 4 STAT (hiz) "Status Condition Indicator. This pin indicates the conducting status of the LTC4411. If the part is forward biased (VIN > VOUT + VFWD) this pin will be Hi-Z. If the part is reverse biased (VOUT > VIN + VRTO), then this pin (See Datasheet)", 5 OUT (power) "Ideal Diode Cathode and Output of the LTC4411. Bypass OUT with a nominal 1mohm ESR capacitor of at least 4.7uF. The LTC4411 is stable with ESRs down to 0.2mohm. However stability improves with higher ESRs."

## LTC4411ES5#PBF
designator U?
Integrated Switch: Replaces Power Supply OR, 2.6 to 5.5 V Vin, 5-pin SOT23 (S5-5), -40 to 85 degC, Pb-Free; Manufacturer: Linear Technology; PartNumber: LTC4411ES5#PBF; Ideal Diode: Single, Internal, P-Channel; DatasheetVersion: Rev. A; PackageVersion: Jun-10; PackageReference: S5-5; PackageDescription: 5-Pin Plastic TSOT-23, Body 1.63 x 2.90 mm, Pitch 0.95 mm; Supplier 1: Newark; Supplier Part Number 1: 78T3425; RoHS: TRUE; Mounting Technology: Surface Mount; Code_JEDEC: MO-193; ComponentLink1Description: Manufacturer URL; ComponentLink1URL: http://www.linear.com/; ComponentLink2Description: Datasheet; ComponentLink2URL: http://cds.linear.com/docs/en/datasheet/4411fa.pdf; ComponentLink3Description: Package Specification; ComponentLink3URL: http://cds.linear.com/docs/en/packaging/SOT_5_05-08-1635.pdf
footprint LT-S5-5-TSOT-23_N (SOT23, 5-Leads, Body 2.90x1.63mm, Pitch 0.95mm, IPC Medium Density)
footprint LT-S5-5-TSOT-23_L (SOT23, 5-Leads, Body 2.90x1.63mm, Pitch 0.95mm, IPC High Density)
footprint LT-S5-5-TSOT-23_M (SOT23, 5-Leads, Body 2.90x1.63mm, Pitch 0.95mm, IPC Low Density)
pins: 1 IN (power) "Ideal Diode Anode and Positive Power Supply for LTC4411. When operating LTC4411 as a switch it must be bypassed with a low ESR ceramic capacitor of 1uF. X5R and X7R dielectrics are preferred for their superior voltage and (See Datasheet)", 2 GND (power) "Power and Signal Ground for the IC.", 3 CTL (in) "Controlled Shutdown Pin. Weak (3uA) Pull-Down. Pull this pin high to shut down the IC. Tie to GND to enable. Can be left floating when not in use.", 4 STAT (hiz) "Status Condition Indicator. This pin indicates the conducting status of the LTC4411. If the part is forward biased (VIN > VOUT + VFWD) this pin will be Hi-Z. If the part is reverse biased (VOUT > VIN + VRTO), then this pin (See Datasheet)", 5 OUT (power) "Ideal Diode Cathode and Output of the LTC4411. Bypass OUT with a nominal 1mohm ESR capacitor of at least 4.7uF. The LTC4411 is stable with ESRs down to 0.2mohm. However stability improves with higher ESRs."

## LTC4411ES5#TR
designator U?
Integrated Switch: Replaces Power Supply OR, 2.6 to 5.5 V Vin, 5-pin SOT23 (S5-5), -40 to 85 degC, Tape and Reel; Manufacturer: Linear Technology; PartNumber: LTC4411ES5#TR; Ideal Diode: Single, Internal, P-Channel; DatasheetVersion: Rev. A; PackageVersion: Jun-10; PackageReference: S5-5; PackageDescription: 5-Pin Plastic TSOT-23, Body 1.63 x 2.90 mm, Pitch 0.95 mm; Supplier 1: Digi-Key; Supplier Part Number 1: LTC4411ES5#TR-ND; Supplier 2: Newark; Supplier Part Number 2: 56M9510; Packing: Tape and Reel; RoHS: FALSE; Mounting Technology: Surface Mount; Code_JEDEC: MO-193; ComponentLink1Description: Manufacturer URL; ComponentLink1URL: http://www.linear.com/; ComponentLink2Description: Datasheet; ComponentLink2URL: http://cds.linear.com/docs/en/datasheet/4411fa.pdf; ComponentLink3Description: Package Specification; ComponentLink3URL: http://cds.linear.com/docs/en/packaging/SOT_5_05-08-1635.pdf
footprint LT-S5-5-TSOT-23_N (SOT23, 5-Leads, Body 2.90x1.63mm, Pitch 0.95mm, IPC Medium Density)
footprint LT-S5-5-TSOT-23_L (SOT23, 5-Leads, Body 2.90x1.63mm, Pitch 0.95mm, IPC High Density)
footprint LT-S5-5-TSOT-23_M (SOT23, 5-Leads, Body 2.90x1.63mm, Pitch 0.95mm, IPC Low Density)
pins: 1 IN (power) "Ideal Diode Anode and Positive Power Supply for LTC4411. When operating LTC4411 as a switch it must be bypassed with a low ESR ceramic capacitor of 1uF. X5R and X7R dielectrics are preferred for their superior voltage and (See Datasheet)", 2 GND (power) "Power and Signal Ground for the IC.", 3 CTL (in) "Controlled Shutdown Pin. Weak (3uA) Pull-Down. Pull this pin high to shut down the IC. Tie to GND to enable. Can be left floating when not in use.", 4 STAT (hiz) "Status Condition Indicator. This pin indicates the conducting status of the LTC4411. If the part is forward biased (VIN > VOUT + VFWD) this pin will be Hi-Z. If the part is reverse biased (VOUT > VIN + VRTO), then this pin (See Datasheet)", 5 OUT (power) "Ideal Diode Cathode and Output of the LTC4411. Bypass OUT with a nominal 1mohm ESR capacitor of at least 4.7uF. The LTC4411 is stable with ESRs down to 0.2mohm. However stability improves with higher ESRs."

## LTC4411ES5#TRM
designator U?
Integrated Switch: Replaces Power Supply OR, 2.6 to 5.5 V Vin, 5-pin SOT23 (S5-5), -40 to 85 degC, Mini Tape and Reel; Manufacturer: Linear Technology; PartNumber: LTC4411ES5#TRM; Ideal Diode: Single, Internal, P-Channel; DatasheetVersion: Rev. A; PackageVersion: Jun-10; PackageReference: S5-5; PackageDescription: 5-Pin Plastic TSOT-23, Body 1.63 x 2.90 mm, Pitch 0.95 mm; Supplier 1: Digi-Key; Supplier Part Number 1: LTC4411ES5#TRM-ND; Supplier 2: Newark; Supplier Part Number 2: 56M9511; Packing: Mini Tape and Reel; RoHS: FALSE; Mounting Technology: Surface Mount; Code_JEDEC: MO-193; ComponentLink1Description: Manufacturer URL; ComponentLink1URL: http://www.linear.com/; ComponentLink2Description: Datasheet; ComponentLink2URL: http://cds.linear.com/docs/en/datasheet/4411fa.pdf; ComponentLink3Description: Package Specification; ComponentLink3URL: http://cds.linear.com/docs/en/packaging/SOT_5_05-08-1635.pdf
footprint LT-S5-5-TSOT-23_N (SOT23, 5-Leads, Body 2.90x1.63mm, Pitch 0.95mm, IPC Medium Density)
footprint LT-S5-5-TSOT-23_L (SOT23, 5-Leads, Body 2.90x1.63mm, Pitch 0.95mm, IPC High Density)
footprint LT-S5-5-TSOT-23_M (SOT23, 5-Leads, Body 2.90x1.63mm, Pitch 0.95mm, IPC Low Density)
pins: 1 IN (power) "Ideal Diode Anode and Positive Power Supply for LTC4411. When operating LTC4411 as a switch it must be bypassed with a low ESR ceramic capacitor of 1uF. X5R and X7R dielectrics are preferred for their superior voltage and (See Datasheet)", 2 GND (power) "Power and Signal Ground for the IC.", 3 CTL (in) "Controlled Shutdown Pin. Weak (3uA) Pull-Down. Pull this pin high to shut down the IC. Tie to GND to enable. Can be left floating when not in use.", 4 STAT (hiz) "Status Condition Indicator. This pin indicates the conducting status of the LTC4411. If the part is forward biased (VIN > VOUT + VFWD) this pin will be Hi-Z. If the part is reverse biased (VOUT > VIN + VRTO), then this pin (See Datasheet)", 5 OUT (power) "Ideal Diode Cathode and Output of the LTC4411. Bypass OUT with a nominal 1mohm ESR capacitor of at least 4.7uF. The LTC4411 is stable with ESRs down to 0.2mohm. However stability improves with higher ESRs."

## LTC4411ES5#TRMPBF
designator U?
Integrated Switch: Replaces Power Supply OR, 2.6 to 5.5 V Vin, 5-pin SOT23 (S5-5), -40 to 85 degC, Pb-Free, Mini Tape and Reel; Manufacturer: Linear Technology; PartNumber: LTC4411ES5#TRMPBF; Ideal Diode: Single, Internal, P-Channel; DatasheetVersion: Rev. A; PackageVersion: Jun-10; PackageReference: S5-5; PackageDescription: 5-Pin Plastic TSOT-23, Body 1.63 x 2.90 mm, Pitch 0.95 mm; Supplier 1: Digi-Key; Supplier Part Number 1: LTC4411ES5#TRMPBFTR-ND; Supplier 2: Digi-Key; Supplier Part Number 2: LTC4411ES5#TRMPBFCT-ND; Supplier 3: Digi-Key; Supplier Part Number 3: LTC4411ES5#TRMPBFDKR-ND; Supplier 4: Farnell; Supplier Part Number 4: 1663916; Supplier 5: Farnell; Supplier Part Number 5: 1663916RL; Supplier 6: Newark; Supplier Part Number 6: 56M9512; Packing: Mini Tape and Reel; RoHS: TRUE; Mounting Technology: Surface Mount; Code_JEDEC: MO-193; ComponentLink1Description: Manufacturer URL; ComponentLink1URL: http://www.linear.com/; ComponentLink2Description: Datasheet; ComponentLink2URL: http://cds.linear.com/docs/en/datasheet/4411fa.pdf; ComponentLink3Description: Package Specification; ComponentLink3URL: http://cds.linear.com/docs/en/packaging/SOT_5_05-08-1635.pdf
footprint LT-S5-5-TSOT-23_N (SOT23, 5-Leads, Body 2.90x1.63mm, Pitch 0.95mm, IPC Medium Density)
footprint LT-S5-5-TSOT-23_L (SOT23, 5-Leads, Body 2.90x1.63mm, Pitch 0.95mm, IPC High Density)
footprint LT-S5-5-TSOT-23_M (SOT23, 5-Leads, Body 2.90x1.63mm, Pitch 0.95mm, IPC Low Density)
pins: 1 IN (power) "Ideal Diode Anode and Positive Power Supply for LTC4411. When operating LTC4411 as a switch it must be bypassed with a low ESR ceramic capacitor of 1uF. X5R and X7R dielectrics are preferred for their superior voltage and (See Datasheet)", 2 GND (power) "Power and Signal Ground for the IC.", 3 CTL (in) "Controlled Shutdown Pin. Weak (3uA) Pull-Down. Pull this pin high to shut down the IC. Tie to GND to enable. Can be left floating when not in use.", 4 STAT (hiz) "Status Condition Indicator. This pin indicates the conducting status of the LTC4411. If the part is forward biased (VIN > VOUT + VFWD) this pin will be Hi-Z. If the part is reverse biased (VOUT > VIN + VRTO), then this pin (See Datasheet)", 5 OUT (power) "Ideal Diode Cathode and Output of the LTC4411. Bypass OUT with a nominal 1mohm ESR capacitor of at least 4.7uF. The LTC4411 is stable with ESRs down to 0.2mohm. However stability improves with higher ESRs."

## LTC4411ES5#TRPBF
designator U?
Integrated Switch: Replaces Power Supply OR, 2.6 to 5.5 V Vin, 5-pin SOT23 (S5-5), -40 to 85 degC, Pb-Free, Tape and Reel; Manufacturer: Linear Technology; PartNumber: LTC4411ES5#TRPBF; Ideal Diode: Single, Internal, P-Channel; DatasheetVersion: Rev. A; PackageVersion: Jun-10; PackageReference: S5-5; PackageDescription: 5-Pin Plastic TSOT-23, Body 1.63 x 2.90 mm, Pitch 0.95 mm; Supplier 1: Digi-Key; Supplier Part Number 1: LTC4411ES5#TRPBF-ND; Supplier 2: Newark; Supplier Part Number 2: 56M9513; Packing: Tape and Reel; RoHS: TRUE; Mounting Technology: Surface Mount; Code_JEDEC: MO-193; ComponentLink1Description: Manufacturer URL; ComponentLink1URL: http://www.linear.com/; ComponentLink2Description: Datasheet; ComponentLink2URL: http://cds.linear.com/docs/en/datasheet/4411fa.pdf; ComponentLink3Description: Package Specification; ComponentLink3URL: http://cds.linear.com/docs/en/packaging/SOT_5_05-08-1635.pdf
footprint LT-S5-5-TSOT-23_N (SOT23, 5-Leads, Body 2.90x1.63mm, Pitch 0.95mm, IPC Medium Density)
footprint LT-S5-5-TSOT-23_L (SOT23, 5-Leads, Body 2.90x1.63mm, Pitch 0.95mm, IPC High Density)
footprint LT-S5-5-TSOT-23_M (SOT23, 5-Leads, Body 2.90x1.63mm, Pitch 0.95mm, IPC Low Density)
pins: 1 IN (power) "Ideal Diode Anode and Positive Power Supply for LTC4411. When operating LTC4411 as a switch it must be bypassed with a low ESR ceramic capacitor of 1uF. X5R and X7R dielectrics are preferred for their superior voltage and (See Datasheet)", 2 GND (power) "Power and Signal Ground for the IC.", 3 CTL (in) "Controlled Shutdown Pin. Weak (3uA) Pull-Down. Pull this pin high to shut down the IC. Tie to GND to enable. Can be left floating when not in use.", 4 STAT (hiz) "Status Condition Indicator. This pin indicates the conducting status of the LTC4411. If the part is forward biased (VIN > VOUT + VFWD) this pin will be Hi-Z. If the part is reverse biased (VOUT > VIN + VRTO), then this pin (See Datasheet)", 5 OUT (power) "Ideal Diode Cathode and Output of the LTC4411. Bypass OUT with a nominal 1mohm ESR capacitor of at least 4.7uF. The LTC4411 is stable with ESRs down to 0.2mohm. However stability improves with higher ESRs."

## LTC4412ES6
designator U?
Low Loss PowerPath(TM) Controller, 2.5 to 28 V Vin, 6-pin SOT23 (S6-6), -40 to 85 degC; Manufacturer: Linear Technology; PartNumber: LTC4412ES6; Ideal Diode: Single, External, P-Channel; PackageVersion: Jun-10; PackageReference: S6-6; PackageDescription: 6-Pin Plastic TSOT-23, Body 2.9 x 1.63 mm, Pitch 0.95 mm; RoHS: FALSE; Mounting Technology: Surface Mount; Code_JEDEC: MO-193; ComponentLink1Description: Manufacturer URL; ComponentLink1URL: http://www.linear.com/; ComponentLink2Description: Datasheet; ComponentLink2URL: http://cds.linear.com/docs/en/datasheet/4412fa.pdf; ComponentLink3Description: Package Specification; ComponentLink3URL: http://cds.linear.com/docs/en/packaging/SOT_6_05-08-1636.pdf
footprint LT-S6-6-TSOT-23_N (SOT23, 6-Leads, Body 2.9x1.75mm, Pitch 0.95mm, IPC Medium Density)
footprint LT-S6-6-TSOT-23_L (SOT23, 6-Leads, Body 2.9x1.75mm, Pitch 0.95mm, IPC High Density)
footprint LT-S6-6-TSOT-23_M (SOT23, 6-Leads, Body 2.9x1.75mm, Pitch 0.95mm, IPC Low Density)
pins: 1 VIN (power) "Primary Input Supply Voltage. Supplies power to the internal circuitry and is one of two voltage sense inputs to the internal analog controller (The other input to the controller is the SENSE pin). This input is usually (See Datasheet)", 2 GND (power) "Ground. Provides a power return for all the internal circuits.", 3 CTL (in) "Digital Control Input. A logical high input (VIH) on this pin forces the gate to source voltage of the primary P-channel MOSFET power switch to a small voltage (VGOFF). This will turn the MOSFET off and no current will flow (See Datasheet)", 4 STAT (oc) "Open-Drain Output Status Pin. When the SENSE pin is pulled above the VIN pin with an auxiliary power source by about 20mV or more, the reverse turn-off threshold (VRTO) is reached. The STAT pin will then go from an open (See Datasheet)", 5 GATE (out) "Primary P-Channel MOSFET Power Switch Gate Drive Pin. This pin is directed by the power controller to maintain a forward regulation voltage (VFR) of 20mV between the VIN and SENSE pins when an auxiliary power source is not (See Datasheet)", 6 SENSE (in) "Power Sense Input Pin. Supplies power to the internal circuitry and is a voltage sense input to the internal analog controller (The other input to the controller is the VIN pin). This input is usually supplied power from an (See Datasheet)"